# Altium schematic symbol library TLV62569DBVT.SchLib: 1 symbol
Pins are listed as number, name and electrical type; pins without a type are passive.

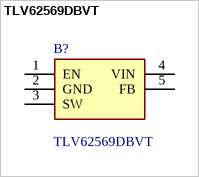
[diagram p0: symbol TLV62569DBVT]

## TLV62569DBVT
designator B?
2.5V-5.5V input, 2-A high efficiency step-down buck converter in SOT23 and SOT563 package; Manufacturer_Name: Texas Instruments; Geometry.Height: 1.45mm; Mouser Part Number: 595-TLV62569DBVT; Mouser Price/Stock: https://www.mouser.co.uk/ProductDetail/Texas-Instruments/TLV62569DBVT?qs=0C8XhJW8e4qp9%2F3ZjhGIMQ%3D%3D; Manufacturer_Part_Number: TLV62569DBVT; Datasheet Link: http://www.ti.com/lit/gpn/TLV62569
footprint SOT95P280X145-5N
pins: 1 EN, 2 GND, 3 SW, 4 VIN, 5 FB